# Altium footprint library WP-SMSH.PcbLib: 4 footprints
Each footprint in its own frame and in the unit in brackets; x right, y up, seen from the top. Pads: shape width x height; smd on the part's side, far side on the other; paste and mask are expansions set on the pad; w line width, h text height; cw(c..) or ccw(c..) is an arc to the next point about the centre after c.
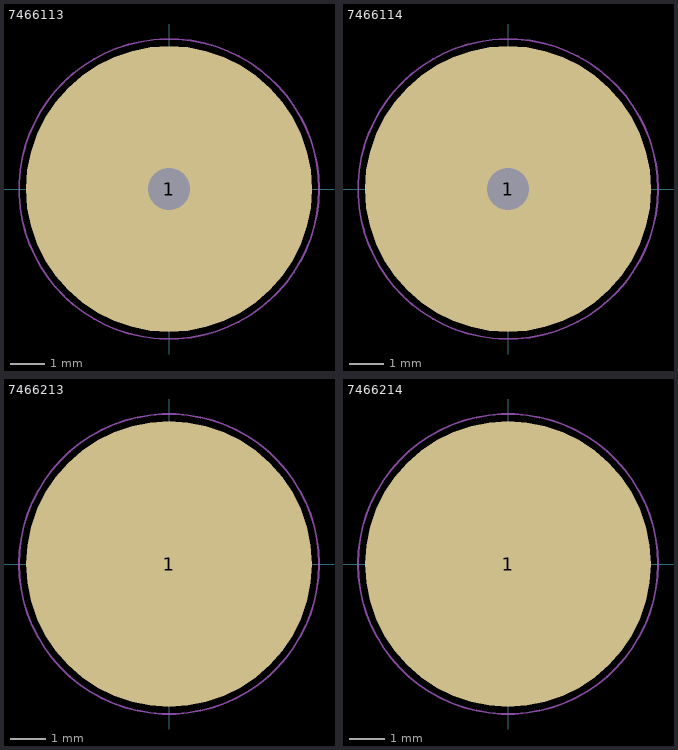
[diagram p0: the footprints below, top view; thin cyan lines are the x and y axes]

## 7466113 [mm] "SMD with external thread with Pin, M3-5mm"
height 8
pads (1):
  round 8.2 / inner round 0 / far side round 0 hole 1.2 unplated: 1(0,0)
Top Paste:
  region: -0.5,-3.969 -0.787,-3.932 -1.346,-3.778 -1.876,-3.545 -2.367,-3.238 -2.808,-2.863 -3.192,-2.429 -3.508,-1.944 -3.752,-1.418 -3.917,-0.863 -4,-0.29 -4,0.29 -3.917,0.863 -3.752,1.418 -3.508,1.944 -3.192,2.429 -2.808,2.863 -2.367,3.238 -1.876,3.545 -1.346,3.778 -0.787,3.932 -0.5,3.969 -0.5,0.559 -0.556,0.503 -0.649,0.376 -0.713,0.233 -0.746,0.079 -0.746,-0.079 -0.713,-0.233 -0.649,-0.376 -0.556,-0.503 -0.5,-0.559
  region: 0.5,-3.969 0.787,-3.932 1.346,-3.778 1.876,-3.545 2.367,-3.238 2.808,-2.863 3.192,-2.429 3.508,-1.944 3.752,-1.418 3.917,-0.863 4,-0.29 4,0.29 3.917,0.863 3.752,1.418 3.508,1.944 3.192,2.429 2.808,2.863 2.367,3.238 1.876,3.545 1.346,3.778 0.787,3.932 0.5,3.969 0.5,0.559 0.556,0.503 0.649,0.376 0.713,0.233 0.746,0.079 0.746,-0.079 0.713,-0.233 0.649,-0.376 0.556,-0.503 0.5,-0.559
Top Component Outline:
  circle w0.1: c0,0 r3.5
Top Designator:
  text ".Designator" at -3.647,-0.357 h1
Top 3D Body:
  circle w0.1: c0,0 r3.5
Top Courtyard:
  circle w0.05: c0,0 r4.3
Top Component Center:
  lines w0.1: -0.5,0 0.5,0 ; 0,-0.5 0,0.5
3D body "7466113.stp": height 8, standoff -0.8, extent -3.497,-3.5 3.497,3.5

## 7466114 [mm] "SMD with external thread with Pin, M4-5mm"
height 8
pads (1):
  round 8.2 / inner round 0 / far side round 0 hole 1.2 unplated: 1(0,0)
Top Paste:
  region: 0.5,-3.969 0.787,-3.932 1.346,-3.778 1.876,-3.545 2.367,-3.238 2.808,-2.863 3.192,-2.429 3.508,-1.944 3.752,-1.418 3.917,-0.863 4,-0.29 4,0.29 3.917,0.863 3.752,1.418 3.508,1.944 3.192,2.429 2.808,2.863 2.367,3.238 1.876,3.545 1.346,3.778 0.787,3.932 0.5,3.969 0.5,0.559 0.556,0.503 0.649,0.376 0.713,0.233 0.746,0.079 0.746,-0.079 0.713,-0.233 0.649,-0.376 0.556,-0.503 0.5,-0.559
  region: -0.5,-3.969 -0.787,-3.932 -1.346,-3.778 -1.876,-3.545 -2.367,-3.238 -2.808,-2.863 -3.192,-2.429 -3.508,-1.944 -3.752,-1.418 -3.917,-0.863 -4,-0.29 -4,0.29 -3.917,0.863 -3.752,1.418 -3.508,1.944 -3.192,2.429 -2.808,2.863 -2.367,3.238 -1.876,3.545 -1.346,3.778 -0.787,3.932 -0.5,3.969 -0.5,0.559 -0.556,0.503 -0.649,0.376 -0.713,0.233 -0.746,0.079 -0.746,-0.079 -0.713,-0.233 -0.649,-0.376 -0.556,-0.503 -0.5,-0.559
Top Component Outline:
  circle w0.1: c0,0 r3.5
Top Designator:
  text ".Designator" at -3.647,-0.357 h1
Top 3D Body:
  circle w0.1: c0,0 r3.5
Top Courtyard:
  circle w0.05: c0,0 r4.3
Top Component Center:
  lines w0.1: -0.5,0 0.5,0 ; 0,-0.5 0,0.5
3D body "7466114.stp": height 8, standoff -0.8, extent -3.497,-3.5 3.497,3.5

## 7466213 [mm] "SMD with external thread with Pin, M3-5mm"
height 8
pads (1):
  round 8 smd paste-403.566: 1(0,0)
Top Paste:
  region: -3.868,0.5 -3.84,0.712 -3.74,1.127 -3.594,1.529 -3.406,1.913 -3.176,2.273 -2.909,2.607 -2.607,2.909 -2.273,3.176 -1.913,3.406 -1.529,3.594 -1.127,3.74 -0.712,3.84 -0.5,3.868 -0.5,0.5
  region: -0.5,-3.868 -0.712,-3.84 -1.127,-3.74 -1.529,-3.594 -1.913,-3.406 -2.273,-3.176 -2.607,-2.909 -2.909,-2.607 -3.176,-2.273 -3.406,-1.913 -3.594,-1.529 -3.74,-1.127 -3.84,-0.712 -3.868,-0.5 -0.5,-0.5
  region: 3.868,-0.5 3.84,-0.712 3.74,-1.127 3.594,-1.529 3.406,-1.913 3.176,-2.273 2.909,-2.607 2.607,-2.909 2.273,-3.176 1.913,-3.406 1.529,-3.594 1.127,-3.74 0.712,-3.84 0.5,-3.868 0.5,-0.5
  region: 0.5,3.868 0.712,3.84 1.127,3.74 1.529,3.594 1.913,3.406 2.273,3.176 2.607,2.909 2.909,2.607 3.176,2.273 3.406,1.913 3.594,1.529 3.74,1.127 3.84,0.712 3.868,0.5 0.5,0.5
Top Component Outline:
  circle w0.1: c0,0 r3.5
Top Designator:
  text ".Designator" at -3.647,-0.357 h1
Top 3D Body:
  circle w0.1: c0,0 r3.5
Top Courtyard:
  circle w0.05: c0,0 r4.2
Top Component Center:
  lines w0.1: -0.5,0 0.5,0 ; 0,-0.5 0,0.5
3D body "7466213.stp": height 8, standoff 0, extent -3.497,-3.5 3.497,3.5

## 7466214 [mm] "SMD with external thread with Pin, M4-5mm"
height 8
pads (1):
  round 8 smd paste-403.566: 1(0,0)
Top Paste:
  region: -3.868,0.5 -3.84,0.712 -3.74,1.127 -3.594,1.529 -3.406,1.913 -3.176,2.273 -2.909,2.607 -2.607,2.909 -2.273,3.176 -1.913,3.406 -1.529,3.594 -1.127,3.74 -0.712,3.84 -0.5,3.868 -0.5,0.5
  region: -0.5,-3.868 -0.712,-3.84 -1.127,-3.74 -1.529,-3.594 -1.913,-3.406 -2.273,-3.176 -2.607,-2.909 -2.909,-2.607 -3.176,-2.273 -3.406,-1.913 -3.594,-1.529 -3.74,-1.127 -3.84,-0.712 -3.868,-0.5 -0.5,-0.5
  region: 3.868,-0.5 3.84,-0.712 3.74,-1.127 3.594,-1.529 3.406,-1.913 3.176,-2.273 2.909,-2.607 2.607,-2.909 2.273,-3.176 1.913,-3.406 1.529,-3.594 1.127,-3.74 0.712,-3.84 0.5,-3.868 0.5,-0.5
  region: 0.5,3.868 0.712,3.84 1.127,3.74 1.529,3.594 1.913,3.406 2.273,3.176 2.607,2.909 2.909,2.607 3.176,2.273 3.406,1.913 3.594,1.529 3.74,1.127 3.84,0.712 3.868,0.5 0.5,0.5
Top Component Outline:
  circle w0.1: c0,0 r3.5
Top Designator:
  text ".Designator" at -3.647,-0.357 h1
Top 3D Body:
  circle w0.1: c0,0 r3.5
Top Courtyard:
  circle w0.05: c0,0 r4.2
Top Component Center:
  lines w0.1: -0.5,0 0.5,0 ; 0,-0.5 0,0.5
3D body "7466214.stp": height 8, standoff 0, extent -3.497,-3.5 3.497,3.5